# EAGLE library part M41T62 (library sensor)
Real Time Clock (RTC) has funtion that Memory mapped registers for seconds, minutes, hours, day, date, month, year, and century // Tenths/hundredths of seconds register. 350nA timekeeping current at 3V 1.3 to 4.4 V I2C bus operating voltage (equal for lithium - ion battery operation)
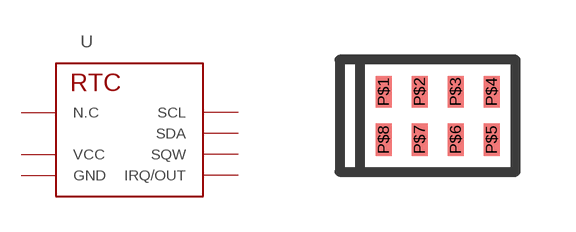
[diagram p1: symbol with the pads of LCC8; footprint LCC8]

Designator prefix U

## M41T62  [LCC8]
P$1  SDA
P$2  SQW
P$3  GND  sup
P$4  N.C  nc
P$5  VCC  pwr
P$6  IRQ/OUT
P$7  N.C  nc
P$8  SCL

## Footprint LCC8 (pad centres in mm)
smd 0.4 x 0.8: P$1 0,0; P$2 0.9,0; P$3 1.8,0; P$4 2.7,0; P$5 2.7,-1.2; P$6 1.8,-1.2; P$7 0.9,-1.2; P$8 0,-1.2